# Altium footprint library 大创_电机驱动板PCB.PcbLib: 2 footprints
Each footprint in its own frame and in the unit in brackets; x right, y up, seen from the top. Pads: shape width x height; smd on the part's side, far side on the other; paste and mask are expansions set on the pad; w line width, h text height; cw(c..) or ccw(c..) is an arc to the next point about the centre after c.
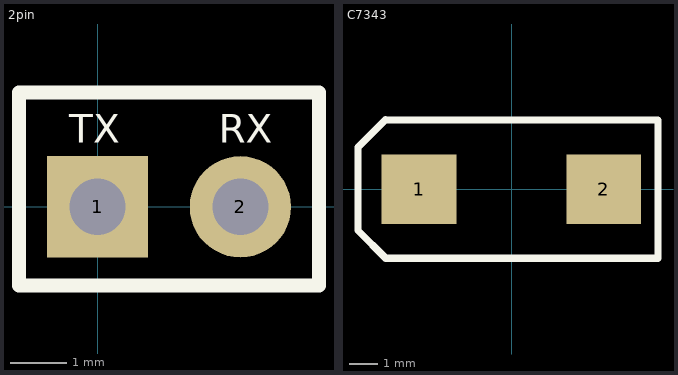
[diagram p0: the footprints below, top view; thin cyan lines are the x and y axes]

## 2pin [mm]
pads (2):
  rect 1.8x1.8 hole 1 paste+0: 1(0,0)
  round 1.8 hole 1 paste+0: 2(2.54,0)
Top Overlay:
  lines w0.254: -1.397,-1.397 -1.397,2.032 3.937,2.032 3.937,-1.397 -1.397,-1.397
  text "TX" at -0.508,1.143 h0.51
  text "RX" at 2.159,1.143 h0.51

## C7343 [mm] "D型  7.3mmx4.3mm（蒜米工坊）"
height 2.8
pads (2):
  rect 2.6x2.4 smd: 1(-3.202,0.007) 2(3.198,0.007)
Top Overlay:
  lines w0.254: -4.369,-2.388 5.08,-2.388 5.08,2.388 ; -4.362,-2.388 -5.325,-1.425 -5.325,1.457 -4.369,2.413 5.08,2.406
3D body: height 0.3, standoff 0, extent -3.487,-0.869 -3.392,0.82
3D body: height 0.3, standoff 0, extent 3.308,-0.855 3.512,0.915
3D body "TAJ-D.STEP": height 2.9, standoff 0, extent -3.65,-2.125 3.65,2.175